# EAGLE library part 679308124022 (library Wire-to-Board)
WR-WTB 1.50mm SMT Male Vertical Shrouded Header, 8 Pins=>Code : Con_WTB_1.50_PCB_SMT_679308124022 <http://katalog.we-online.de/media/thumbs2/eican/thb_Con_WTB_1.50_PCB_SMT_6793xx124022_pf2.jpg> Details see: http://katalog.we-online.de/en/em/679_3xx_124_022 Created 2014-06-06, Karrer Zheng 2014 (C) Würth Elektronik
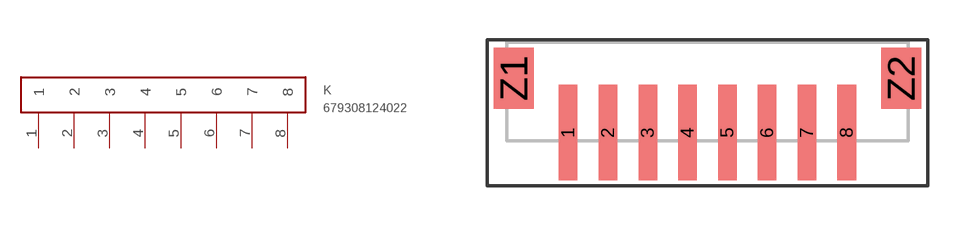
[diagram p46: symbol with the pads of 679308124022; footprint 679308124022]

Designator prefix K

## 679308124022  [679308124022]
1  1
2  2
3  3
4  4
5  5
6  6
7  7
8  8

## Footprint 679308124022 (pad centres in mm)
WR-WTB 1.50mm SMT Male Vertical Shrouded Header, 8 Pins
smd 0.7 x 3.6: 1 -0.75,0; 2 0.75,0; 3 2.25,0; 4 3.75,0; 5 5.25,0; 6 6.75,0; 7 8.25,0; 8 9.75,0
smd 1.5 x 2.3: Z1 -2.8,2.05; Z2 11.8,2.05